# EAGLE library part NRF24L01- (library arno)
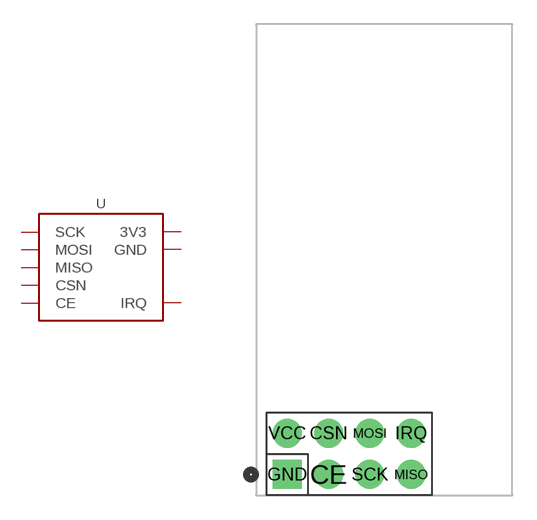
[diagram p19: symbol with the pads of NRF24L01-BO1; footprint NRF24L01-BO1]

Designator prefix U

## NRF24L01-WIRE  [NRF24L01-BO1]
CE  CE
CSN  CSN
GND  GND
IRQ  IRQ
MISO  MISO
MOSI  MOSI
SCK  SCK
VCC  3V3

## Footprint NRF24L01-BO1 (pad centres in mm)
drill 1.016 pad 1.778: CE 4.445,1.27; CSN 4.445,3.81; IRQ 9.525,3.81; MISO 9.525,1.27; MOSI 6.985,3.81; SCK 6.985,1.27; VCC 1.905,3.81
drill 1.016 pad 1.778 square: GND 1.905,1.27